# Altium footprint library SMD-FERRITE-BEAD-30R-3A_0805_.PcbLib: 2 footprints
Each footprint in its own frame and in the unit in brackets; x right, y up, seen from the top. Pads: shape width x height; smd on the part's side, far side on the other; paste and mask are expansions set on the pad; w line width, h text height; cw(c..) or ccw(c..) is an arc to the next point about the centre after c.
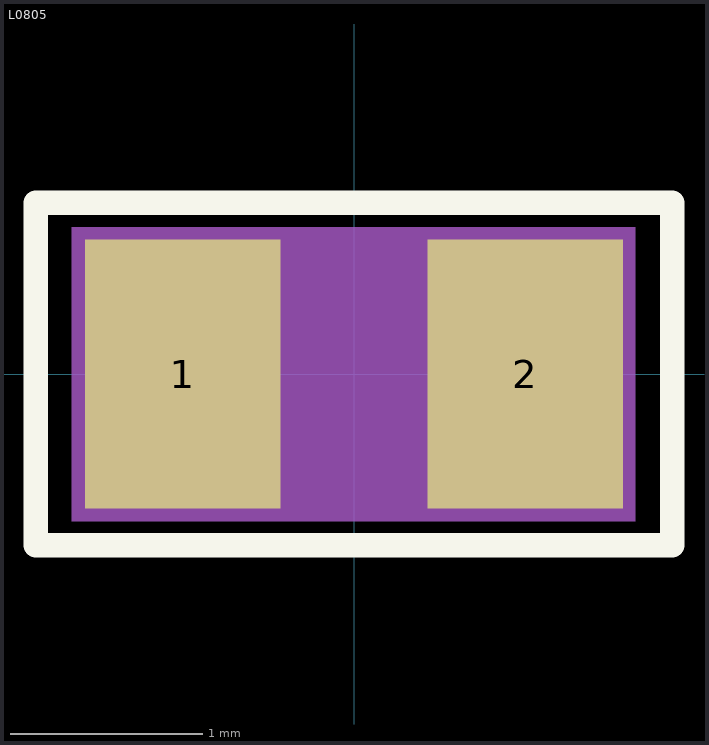
[diagram p0: the footprints below, top view; thin cyan lines are the x and y axes]

## L0805 [mil]
pads (2):
  rect 40x55 smd: 1(-35,0) 2(35,0)
Top Overlay:
  lines w5: -65,-35 65,-35 65,35 -65,35 -65,-35
Mechanical 1:
  region: -57.69,30 57.5,30 57.5,-30.1 -57.69,-30.1

## PCBComponent_1 [mil]